# EAGLE library part NRF24LU1P-F32Q32-T (library NRF24LU1P-F32Q32-T)
Nordic Semiconductor NRF24LU1P-F32Q32-T, 8 bit System On Chip SOC for Compact USB Dongles for Wireless Peripherals, Source: Datasheet <https://componentsearchengine.com/Datasheets/1/nRF24LU1P-F32Q32-T.pdf>
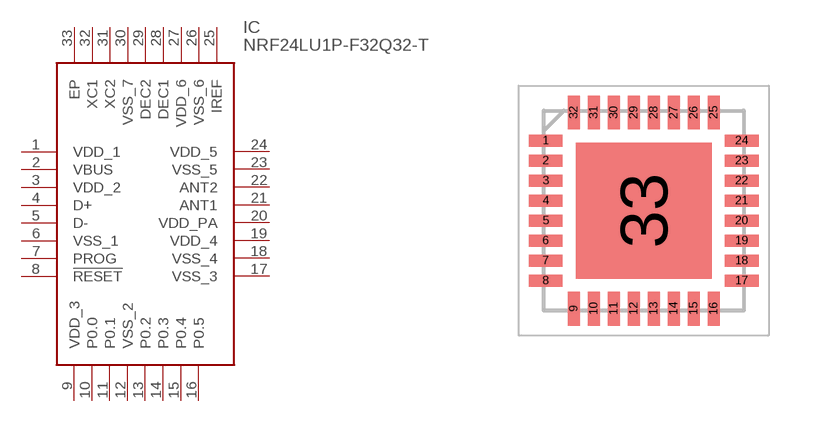
[diagram p0: symbol with the pads of QFN50P500X500X95-33N; footprint QFN50P500X500X95-33N]

Designator prefix IC

## NRF24LU1P-F32Q32-T (Description: Nordic Semiconductor NRF24LU1P-F32Q32-T, 8 bit System On Chip SOC for Compact USB Dongles for Wireless Peripherals,; Height: 0.95mm; Manufacturer_Name: Nordic Semiconductor; Manufacturer_Part_Number: NRF24LU1P-F32Q32-T; Mouser_Part_Number: 949-NRF24LU1PF3232T; Mouser_Price-Stock: https://www.mouser.co.uk/ProductDetail/Nordic-Semiconductor/nRF24LU1P-F32Q32-T?qs=yd0qOhnSiDcwp9bBOHQXig%3D%3D)  [QFN50P500X500X95-33N]
1  VDD_1
2  VBUS
3  VDD_2
4  D+
5  D-
6  VSS_1
7  PROG
8  !RESET
9  VDD_3
10  P0.0
11  P0.1
12  VSS_2
13  P0.2
14  P0.3
15  P0.4
16  P0.5
17  VSS_3
18  VSS_4
19  VDD_4
20  VDD_PA
21  ANT1
22  ANT2
23  VSS_5
24  VDD_5
25  IREF
26  VSS_6
27  VDD_6
28  DEC1
29  DEC2
30  VSS_7
31  XC2
32  XC1
33  EP

## Footprint QFN50P500X500X95-33N (pad centres in mm)
QFN-32
smd 0.85 x 0.3: 1 -2.45,1.75; 2 -2.45,1.25; 3 -2.45,0.75; 4 -2.45,0.25; 5 -2.45,-0.25; 6 -2.45,-0.75; 7 -2.45,-1.25; 8 -2.45,-1.75; 17 2.45,-1.75; 18 2.45,-1.25; 19 2.45,-0.75; 20 2.45,-0.25; 21 2.45,0.25; 22 2.45,0.75; 23 2.45,1.25; 24 2.45,1.75
smd 0.3 x 0.85: 9 -1.75,-2.45; 10 -1.25,-2.45; 11 -0.75,-2.45; 12 -0.25,-2.45; 13 0.25,-2.45; 14 0.75,-2.45; 15 1.25,-2.45; 16 1.75,-2.45; 25 1.75,2.45; 26 1.25,2.45; 27 0.75,2.45; 28 0.25,2.45; 29 -0.25,2.45; 30 -0.75,2.45; 31 -1.25,2.45; 32 -1.75,2.45
smd 3.4 x 3.4: 33 0,0